# Altium footprint library RELAY3.3V.PcbLib: 1 footprints
Each footprint in its own frame and in the unit in brackets; x right, y up, seen from the top. Pads: shape width x height; smd on the part's side, far side on the other; paste and mask are expansions set on the pad; w line width, h text height; cw(c..) or ccw(c..) is an arc to the next point about the centre after c.
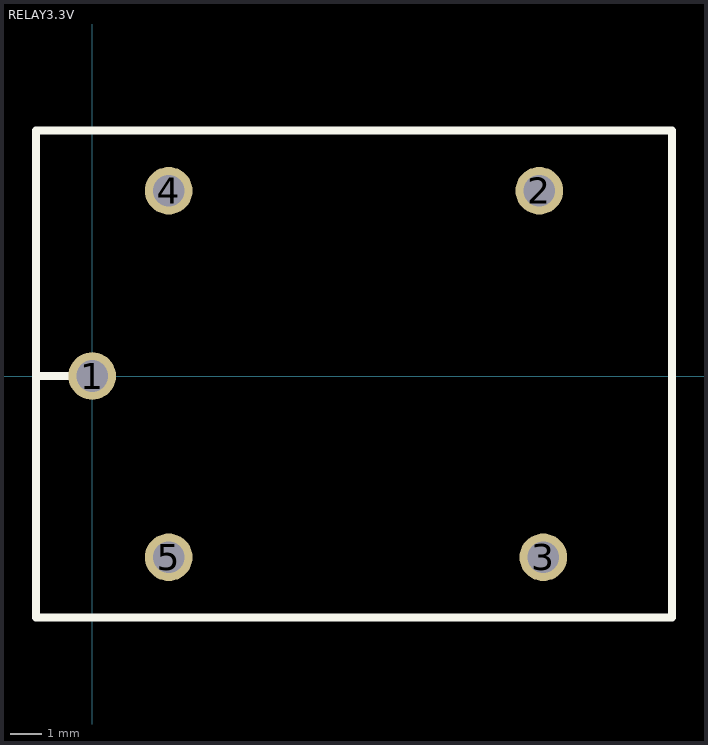
[diagram p0: the footprint, top view; thin cyan lines are the x and y axes]

## RELAY3.3V [mm]
pads (5):
  round 1.5 hole 1: 1(0,0) 2(14.097,5.842) 3(14.224,-5.715) 4(2.413,5.842) 5(2.413,-5.715)
Top Overlay:
  lines w0.254: -1.778,0 -0.635,0 ; -1.778,-7.62 18.288,-7.62 18.288,7.747 -1.778,7.747 -1.778,-7.62